# Altium footprint library Relay.PcbLib: 1 footprints
Each footprint in its own frame and in the unit in brackets; x right, y up, seen from the top. Pads: shape width x height; smd on the part's side, far side on the other; paste and mask are expansions set on the pad; w line width, h text height; cw(c..) or ccw(c..) is an arc to the next point about the centre after c.
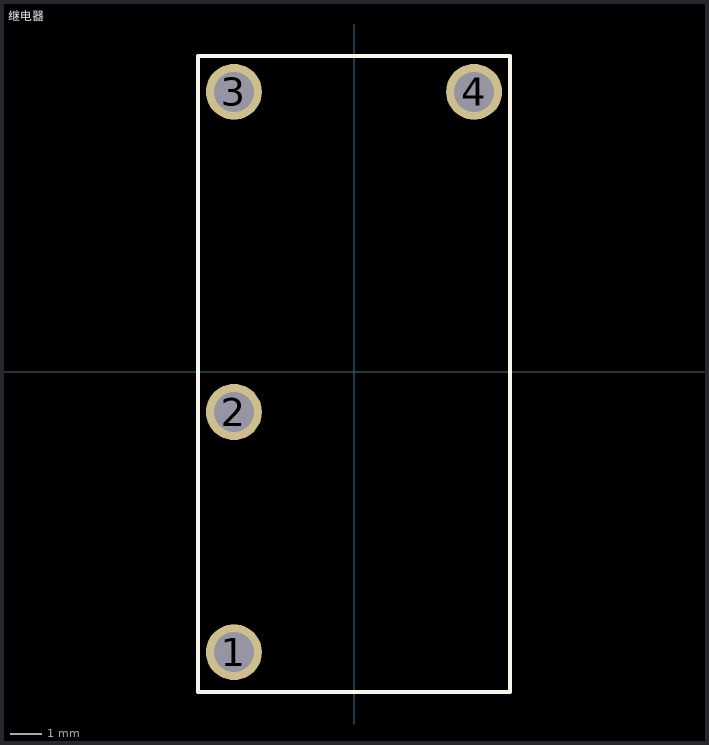
[diagram p0: the footprint, top view; thin cyan lines are the x and y axes]

## 继电器 [mil] "Relay_DIP4"
pads (4):
  round 70 hole 50: 1(-150,-350) 2(-150,-50) 3(-150,350) 4(150,350)
Top Overlay:
  lines w5: -195,-400 -195,395 195,395 195,95 195,-400 -195,-400